# Altium integrated library ALTIUM-WE-PD-rev19a.IntLib: 320 symbols (part 4 of 5)
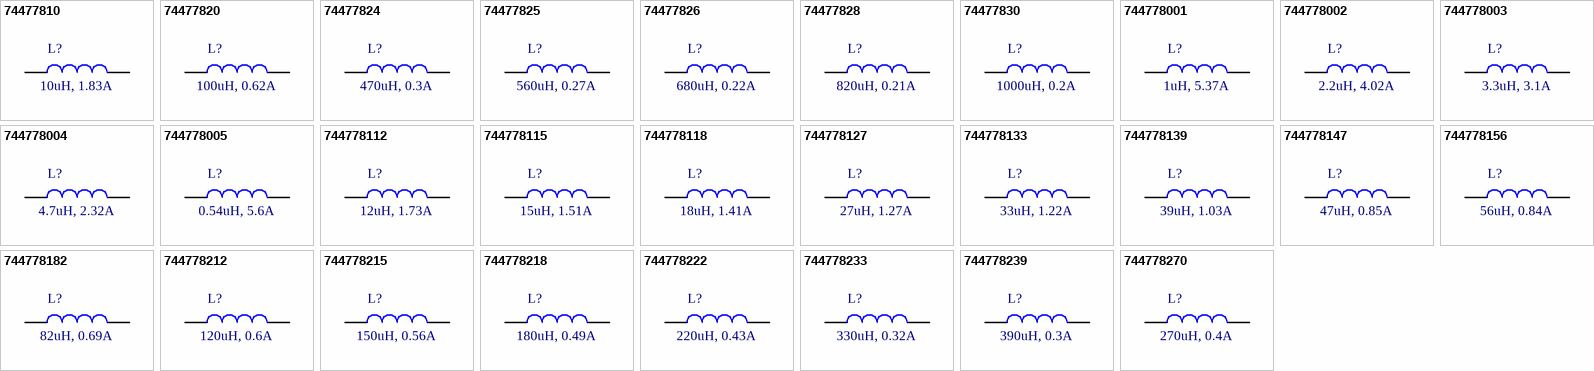
[diagram p17: symbols 74477810 to 744778270]

## 74477828
designator L?, comment 820uH, 0.21A
WE-PD SMT Power Inductor, size 7332, 820uH, 0.21A; Part Number: 74477828; DC Resistance max.: 6500mOhm; Self Resonant Frequency: 2.8MHz; Saturation Current: 0.2A; ComponentLink1Description: Manufacturer; ComponentLink1URL: http://www.we-online.de; ComponentLink2Description: Datasheet; ComponentLink2URL: https://katalog.we-online.com/pbs/datasheet/74477828.pdf; Published Date: April 2019; Publisher: Wurth Elektronik; Rated Current: 0.21A; Size: 7332; Inductance: 820uH; Operating Temperature: -40 to +125degC; Mounting Technology: SMT; Packaging: Tape and Reel
footprint WE-PD_7332
pins: 1, 2

## 74477830
designator L?, comment 1000uH, 0.2A
WE-PD SMT Power Inductor, size 7332, 1000uH, 0.2A; Part Number: 74477830; DC Resistance max.: 9440mOhm; Self Resonant Frequency: 2.6MHz; Saturation Current: 0.18A; ComponentLink1Description: Manufacturer; ComponentLink1URL: http://www.we-online.de; ComponentLink2Description: Datasheet; ComponentLink2URL: https://katalog.we-online.com/pbs/datasheet/74477830.pdf; Published Date: April 2019; Publisher: Wurth Elektronik; Rated Current: 0.2A; Size: 7332; Inductance: 1000uH; Operating Temperature: -40 to +125degC; Mounting Technology: SMT; Packaging: Tape and Reel
footprint WE-PD_7332
pins: 1, 2

## 744778001
designator L?, comment 1uH, 5.37A
WE-PD SMT Power Inductor, size 7332, 1uH, 5.37A; Part Number: 744778001; DC Resistance max.: 12mOhm; Self Resonant Frequency: 115MHz; Saturation Current: 6.4A; ComponentLink1Description: Manufacturer; ComponentLink1URL: http://www.we-online.de; ComponentLink2Description: Datasheet; ComponentLink2URL: https://katalog.we-online.com/pbs/datasheet/744778001.pdf; Published Date: April 2019; Publisher: Wurth Elektronik; Rated Current: 5.37A; Size: 7332; Inductance: 1uH; Operating Temperature: -40 to +125degC; Mounting Technology: SMT; Packaging: Tape and Reel
footprint WE-PD_7332
pins: 1, 2

## 744778002
designator L?, comment 2.2uH, 4.02A
WE-PD SMT Power Inductor, size 7332, 2.2uH, 4.02A; Part Number: 744778002; DC Resistance max.: 20mOhm; Self Resonant Frequency: 67MHz; Saturation Current: 4.8A; ComponentLink1Description: Manufacturer; ComponentLink1URL: http://www.we-online.de; ComponentLink2Description: Datasheet; ComponentLink2URL: https://katalog.we-online.com/pbs/datasheet/744778002.pdf; Published Date: April 2019; Publisher: Wurth Elektronik; Rated Current: 4.02A; Size: 7332; Inductance: 2.2uH; Operating Temperature: -40 to +125degC; Mounting Technology: SMT; Packaging: Tape and Reel
footprint WE-PD_7332
pins: 1, 2

## 744778003
designator L?, comment 3.3uH, 3.1A
WE-PD SMT Power Inductor, size 7332, 3.3uH, 3.1A; Part Number: 744778003; DC Resistance max.: 32mOhm; Self Resonant Frequency: 61MHz; Saturation Current: 4.1A; ComponentLink1Description: Manufacturer; ComponentLink1URL: http://www.we-online.de; ComponentLink2Description: Datasheet; ComponentLink2URL: https://katalog.we-online.com/pbs/datasheet/744778003.pdf; Published Date: April 2019; Publisher: Wurth Elektronik; Rated Current: 3.1A; Size: 7332; Inductance: 3.3uH; Operating Temperature: -40 to +125degC; Mounting Technology: SMT; Packaging: Tape and Reel
footprint WE-PD_7332
pins: 1, 2

## 744778004
designator L?, comment 4.7uH, 2.32A
WE-PD SMT Power Inductor, size 7332, 4.7uH, 2.32A; Part Number: 744778004; DC Resistance max.: 60mOhm; Self Resonant Frequency: 45MHz; Saturation Current: 4.2A; ComponentLink1Description: Manufacturer; ComponentLink1URL: http://www.we-online.de; ComponentLink2Description: Datasheet; ComponentLink2URL: https://katalog.we-online.com/pbs/datasheet/744778004.pdf; Published Date: April 2019; Publisher: Wurth Elektronik; Rated Current: 2.32A; Size: 7332; Inductance: 4.7uH; Operating Temperature: -40 to +125degC; Mounting Technology: SMT; Packaging: Tape and Reel
footprint WE-PD_7332
pins: 1, 2

## 744778005
designator L?, comment 0.54uH, 5.6A
WE-PD SMT Power Inductor, size 7332, 0.54uH, 5.6A; Part Number: 744778005; DC Resistance max.: 8.5mOhm; Self Resonant Frequency: 155MHz; Saturation Current: 9A; ComponentLink1Description: Manufacturer; ComponentLink1URL: http://www.we-online.de; ComponentLink2Description: Datasheet; ComponentLink2URL: https://katalog.we-online.com/pbs/datasheet/744778005.pdf; Published Date: April 2019; Publisher: Wurth Elektronik; Rated Current: 5.6A; Size: 7332; Inductance: 0.54uH; Operating Temperature: -40 to +125degC; Mounting Technology: SMT; Packaging: Tape and Reel
footprint WE-PD_7332
pins: 1, 2

## 744778112
designator L?, comment 12uH, 1.73A
WE-PD SMT Power Inductor, size 7332, 12uH, 1.73A; Part Number: 744778112; DC Resistance max.: 98mOhm; Self Resonant Frequency: 27MHz; Saturation Current: 2.15A; ComponentLink1Description: Manufacturer; ComponentLink1URL: http://www.we-online.de; ComponentLink2Description: Datasheet; ComponentLink2URL: https://katalog.we-online.com/pbs/datasheet/744778112.pdf; Published Date: April 2019; Publisher: Wurth Elektronik; Rated Current: 1.73A; Size: 7332; Inductance: 12uH; Operating Temperature: -40 to +125degC; Mounting Technology: SMT; Packaging: Tape and Reel
footprint WE-PD_7332
pins: 1, 2

## 744778115
designator L?, comment 15uH, 1.51A
WE-PD SMT Power Inductor, size 7332, 15uH, 1.51A; Part Number: 744778115; DC Resistance max.: 130mOhm; Self Resonant Frequency: 26MHz; Saturation Current: 1.75A; ComponentLink1Description: Manufacturer; ComponentLink1URL: http://www.we-online.de; ComponentLink2Description: Datasheet; ComponentLink2URL: https://katalog.we-online.com/pbs/datasheet/744778115.pdf; Published Date: April 2019; Publisher: Wurth Elektronik; Rated Current: 1.51A; Size: 7332; Inductance: 15uH; Operating Temperature: -40 to +125degC; Mounting Technology: SMT; Packaging: Tape and Reel
footprint WE-PD_7332
pins: 1, 2

## 744778118
designator L?, comment 18uH, 1.41A
WE-PD SMT Power Inductor, size 7332, 18uH, 1.41A; Part Number: 744778118; DC Resistance max.: 140mOhm; Self Resonant Frequency: 24MHz; Saturation Current: 1.7A; ComponentLink1Description: Manufacturer; ComponentLink1URL: http://www.we-online.de; ComponentLink2Description: Datasheet; ComponentLink2URL: https://katalog.we-online.com/pbs/datasheet/744778118.pdf; Published Date: April 2019; Publisher: Wurth Elektronik; Rated Current: 1.41A; Size: 7332; Inductance: 18uH; Operating Temperature: -40 to +125degC; Mounting Technology: SMT; Packaging: Tape and Reel
footprint WE-PD_7332
pins: 1, 2

## 744778127
designator L?, comment 27uH, 1.27A
WE-PD SMT Power Inductor, size 7332, 27uH, 1.27A; Part Number: 744778127; DC Resistance max.: 210mOhm; Self Resonant Frequency: 18MHz; Saturation Current: 1.3A; ComponentLink1Description: Manufacturer; ComponentLink1URL: http://www.we-online.de; ComponentLink2Description: Datasheet; ComponentLink2URL: https://katalog.we-online.com/pbs/datasheet/744778127.pdf; Published Date: April 2019; Publisher: Wurth Elektronik; Rated Current: 1.27A; Size: 7332; Inductance: 27uH; Operating Temperature: -40 to +125degC; Mounting Technology: SMT; Packaging: Tape and Reel
footprint WE-PD_7332
pins: 1, 2

## 744778133
designator L?, comment 33uH, 1.22A
WE-PD SMT Power Inductor, size 7332, 33uH, 1.22A; Part Number: 744778133; DC Resistance max.: 240mOhm; Self Resonant Frequency: 16MHz; Saturation Current: 1.15A; ComponentLink1Description: Manufacturer; ComponentLink1URL: http://www.we-online.de; ComponentLink2Description: Datasheet; ComponentLink2URL: https://katalog.we-online.com/pbs/datasheet/744778133.pdf; Published Date: April 2019; Publisher: Wurth Elektronik; Rated Current: 1.22A; Size: 7332; Inductance: 33uH; Operating Temperature: -40 to +125degC; Mounting Technology: SMT; Packaging: Tape and Reel
footprint WE-PD_7332
pins: 1, 2

## 744778139
designator L?, comment 39uH, 1.03A
WE-PD SMT Power Inductor, size 7332, 39uH, 1.03A; Part Number: 744778139; DC Resistance max.: 320mOhm; Self Resonant Frequency: 14MHz; Saturation Current: 1.1A; ComponentLink1Description: Manufacturer; ComponentLink1URL: http://www.we-online.de; ComponentLink2Description: Datasheet; ComponentLink2URL: https://katalog.we-online.com/pbs/datasheet/744778139.pdf; Published Date: April 2019; Publisher: Wurth Elektronik; Rated Current: 1.03A; Size: 7332; Inductance: 39uH; Operating Temperature: -40 to +125degC; Mounting Technology: SMT; Packaging: Tape and Reel
footprint WE-PD_7332
pins: 1, 2

## 744778147
designator L?, comment 47uH, 0.85A
WE-PD SMT Power Inductor, size 7332, 47uH, 0.85A; Part Number: 744778147; DC Resistance max.: 360mOhm; Self Resonant Frequency: 13.5MHz; Saturation Current: 1A; ComponentLink1Description: Manufacturer; ComponentLink1URL: http://www.we-online.de; ComponentLink2Description: Datasheet; ComponentLink2URL: https://katalog.we-online.com/pbs/datasheet/744778147.pdf; Published Date: April 2019; Publisher: Wurth Elektronik; Rated Current: 0.85A; Size: 7332; Inductance: 47uH; Operating Temperature: -40 to +125degC; Mounting Technology: SMT; Packaging: Tape and Reel
footprint WE-PD_7332
pins: 1, 2

## 744778156
designator L?, comment 56uH, 0.84A
WE-PD SMT Power Inductor, size 7332, 56uH, 0.84A; Part Number: 744778156; DC Resistance max.: 470mOhm; Self Resonant Frequency: 12.5MHz; Saturation Current: 0.88A; ComponentLink1Description: Manufacturer; ComponentLink1URL: http://www.we-online.de; ComponentLink2Description: Datasheet; ComponentLink2URL: https://katalog.we-online.com/pbs/datasheet/744778156.pdf; Published Date: April 2019; Publisher: Wurth Elektronik; Rated Current: 0.84A; Size: 7332; Inductance: 56uH; Operating Temperature: -40 to +125degC; Mounting Technology: SMT; Packaging: Tape and Reel
footprint WE-PD_7332
pins: 1, 2

## 744778182
designator L?, comment 82uH, 0.69A
WE-PD SMT Power Inductor, size 7332, 82uH, 0.69A; Part Number: 744778182; DC Resistance max.: 690mOhm; Self Resonant Frequency: 9.8MHz; Saturation Current: 0.78A; ComponentLink1Description: Manufacturer; ComponentLink1URL: http://www.we-online.de; ComponentLink2Description: Datasheet; ComponentLink2URL: https://katalog.we-online.com/pbs/datasheet/744778182.pdf; Published Date: April 2019; Publisher: Wurth Elektronik; Rated Current: 0.69A; Size: 7332; Inductance: 82uH; Operating Temperature: -40 to +125degC; Mounting Technology: SMT; Packaging: Tape and Reel
footprint WE-PD_7332
pins: 1, 2

## 744778212
designator L?, comment 120uH, 0.6A
WE-PD SMT Power Inductor, size 7332, 120uH, 0.6A; Part Number: 744778212; DC Resistance max.: 890mOhm; Self Resonant Frequency: 8.5MHz; Saturation Current: 0.68A; ComponentLink1Description: Manufacturer; ComponentLink1URL: http://www.we-online.de; ComponentLink2Description: Datasheet; ComponentLink2URL: https://katalog.we-online.com/pbs/datasheet/744778212.pdf; Published Date: April 2019; Publisher: Wurth Elektronik; Rated Current: 0.6A; Size: 7332; Inductance: 120uH; Operating Temperature: -40 to +125degC; Mounting Technology: SMT; Packaging: Tape and Reel
footprint WE-PD_7332
pins: 1, 2

## 744778215
designator L?, comment 150uH, 0.56A
WE-PD SMT Power Inductor, size 7332, 150uH, 0.56A; Part Number: 744778215; DC Resistance max.: 1270mOhm; Self Resonant Frequency: 7.2MHz; Saturation Current: 0.53A; ComponentLink1Description: Manufacturer; ComponentLink1URL: http://www.we-online.de; ComponentLink2Description: Datasheet; ComponentLink2URL: https://katalog.we-online.com/pbs/datasheet/744778215.pdf; Published Date: April 2019; Publisher: Wurth Elektronik; Rated Current: 0.56A; Size: 7332; Inductance: 150uH; Operating Temperature: -40 to +125degC; Mounting Technology: SMT; Packaging: Tape and Reel
footprint WE-PD_7332
pins: 1, 2

## 744778218
designator L?, comment 180uH, 0.49A
WE-PD SMT Power Inductor, size 7332, 180uH, 0.49A; Part Number: 744778218; DC Resistance max.: 1450mOhm; Self Resonant Frequency: 7MHz; Saturation Current: 0.5A; ComponentLink1Description: Manufacturer; ComponentLink1URL: http://www.we-online.de; ComponentLink2Description: Datasheet; ComponentLink2URL: https://katalog.we-online.com/pbs/datasheet/744778218.pdf; Published Date: April 2019; Publisher: Wurth Elektronik; Rated Current: 0.49A; Size: 7332; Inductance: 180uH; Operating Temperature: -40 to +125degC; Mounting Technology: SMT; Packaging: Tape and Reel
footprint WE-PD_7332
pins: 1, 2

## 744778222
designator L?, comment 220uH, 0.43A
WE-PD SMT Power Inductor, size 7332, 220uH, 0.43A; Part Number: 744778222; DC Resistance max.: 1650mOhm; Self Resonant Frequency: 6MHz; Saturation Current: 0.42A; ComponentLink1Description: Manufacturer; ComponentLink1URL: http://www.we-online.de; ComponentLink2Description: Datasheet; ComponentLink2URL: https://katalog.we-online.com/pbs/datasheet/744778222.pdf; Published Date: April 2019; Publisher: Wurth Elektronik; Rated Current: 0.43A; Size: 7332; Inductance: 220uH; Operating Temperature: -40 to +125degC; Mounting Technology: SMT; Packaging: Tape and Reel
footprint WE-PD_7332
pins: 1, 2

## 744778233
designator L?, comment 330uH, 0.32A
WE-PD SMT Power Inductor, size 7332, 330uH, 0.32A; Part Number: 744778233; DC Resistance max.: 2620mOhm; Self Resonant Frequency: 4.8MHz; Saturation Current: 0.35A; ComponentLink1Description: Manufacturer; ComponentLink1URL: http://www.we-online.de; ComponentLink2Description: Datasheet; ComponentLink2URL: https://katalog.we-online.com/pbs/datasheet/744778233.pdf; Published Date: April 2019; Publisher: Wurth Elektronik; Rated Current: 0.32A; Size: 7332; Inductance: 330uH; Operating Temperature: -40 to +125degC; Mounting Technology: SMT; Packaging: Tape and Reel
footprint WE-PD_7332
pins: 1, 2

## 744778239
designator L?, comment 390uH, 0.3A
WE-PD SMT Power Inductor, size 7332, 390uH, 0.3A; Part Number: 744778239; DC Resistance max.: 2940mOhm; Self Resonant Frequency: 4.4MHz; Saturation Current: 0.34A; ComponentLink1Description: Manufacturer; ComponentLink1URL: http://www.we-online.de; ComponentLink2Description: Datasheet; ComponentLink2URL: https://katalog.we-online.com/pbs/datasheet/744778239.pdf; Published Date: April 2019; Publisher: Wurth Elektronik; Rated Current: 0.3A; Size: 7332; Inductance: 390uH; Operating Temperature: -40 to +125degC; Mounting Technology: SMT; Packaging: Tape and Reel
footprint WE-PD_7332
pins: 1, 2

## 744778270
designator L?, comment 270uH, 0.4A
WE-PD SMT Power Inductor, size 7332, 270uH, 0.4A; Part Number: 744778270; DC Resistance max.: 2310mOhm; Self Resonant Frequency: 5.2MHz; Saturation Current: 0.39A; ComponentLink1Description: Manufacturer; ComponentLink1URL: http://www.we-online.de; ComponentLink2Description: Datasheet; ComponentLink2URL: https://katalog.we-online.com/pbs/datasheet/744778270.pdf; Published Date: April 2019; Publisher: Wurth Elektronik; Rated Current: 0.4A; Size: 7332; Inductance: 270uH; Operating Temperature: -40 to +125degC; Mounting Technology: SMT; Packaging: Tape and Reel
footprint WE-PD_7332
pins: 1, 2


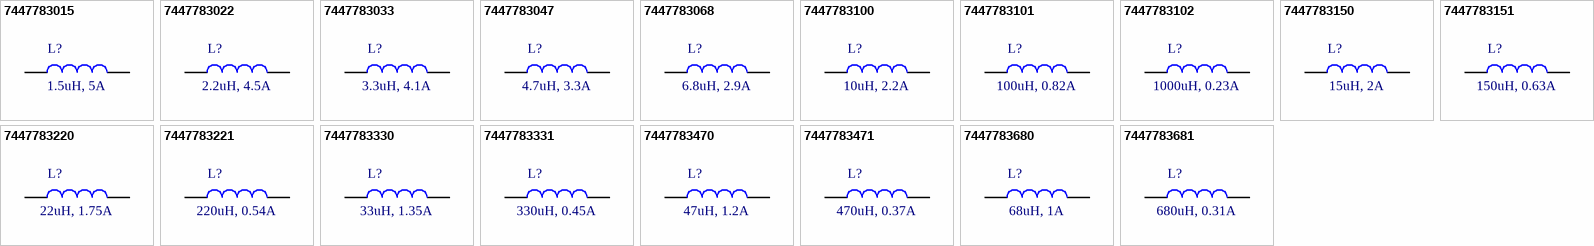
[diagram p11: symbols 7447783015 to 7447783681]

## 7447783015
designator L?, comment 1.5uH, 5A
WE-PD SMT Power Inductor, size 7332, 1.5uH, 5A; Part Number: 7447783015; DC Resistance max.: 15mOhm; Self Resonant Frequency: 73MHz; Saturation Current: 7.8A; ComponentLink1Description: Manufacturer; ComponentLink1URL: http://www.we-online.de; ComponentLink2Description: Datasheet; ComponentLink2URL: https://katalog.we-online.com/pbs/datasheet/7447783015.pdf; Published Date: April 2019; Publisher: Wurth Elektronik; Rated Current: 5A; Size: 7332; Inductance: 1.5uH; Operating Temperature: -40 to +125degC; Mounting Technology: SMT; Packaging: Tape and Reel
footprint WE-PD_7332_Performance
pins: 1, 2

## 7447783022
designator L?, comment 2.2uH, 4.5A
WE-PD SMT Power Inductor, size 7332, 2.2uH, 4.5A; Part Number: 7447783022; DC Resistance max.: 19mOhm; Self Resonant Frequency: 62MHz; Saturation Current: 6.5A; ComponentLink1Description: Manufacturer; ComponentLink1URL: http://www.we-online.de; ComponentLink2Description: Datasheet; ComponentLink2URL: https://katalog.we-online.com/pbs/datasheet/7447783022.pdf; Published Date: April 2019; Publisher: Wurth Elektronik; Rated Current: 4.5A; Size: 7332; Inductance: 2.2uH; Operating Temperature: -40 to +125degC; Mounting Technology: SMT; Packaging: Tape and Reel
footprint WE-PD_7332_Performance
pins: 1, 2

## 7447783033
designator L?, comment 3.3uH, 4.1A
WE-PD SMT Power Inductor, size 7332, 3.3uH, 4.1A; Part Number: 7447783033; DC Resistance max.: 24mOhm; Self Resonant Frequency: 51MHz; Saturation Current: 5.3A; ComponentLink1Description: Manufacturer; ComponentLink1URL: http://www.we-online.de; ComponentLink2Description: Datasheet; ComponentLink2URL: https://katalog.we-online.com/pbs/datasheet/7447783033.pdf; Published Date: April 2019; Publisher: Wurth Elektronik; Rated Current: 4.1A; Size: 7332; Inductance: 3.3uH; Operating Temperature: -40 to +125degC; Mounting Technology: SMT; Packaging: Tape and Reel
footprint WE-PD_7332_Performance
pins: 1, 2

## 7447783047
designator L?, comment 4.7uH, 3.3A
WE-PD SMT Power Inductor, size 7332, 4.7uH, 3.3A; Part Number: 7447783047; DC Resistance max.: 35mOhm; Self Resonant Frequency: 38MHz; Saturation Current: 4.6A; ComponentLink1Description: Manufacturer; ComponentLink1URL: http://www.we-online.de; ComponentLink2Description: Datasheet; ComponentLink2URL: https://katalog.we-online.com/pbs/datasheet/7447783047.pdf; Published Date: April 2019; Publisher: Wurth Elektronik; Rated Current: 3.3A; Size: 7332; Inductance: 4.7uH; Operating Temperature: -40 to +125degC; Mounting Technology: SMT; Packaging: Tape and Reel
footprint WE-PD_7332_Performance
pins: 1, 2

## 7447783068
designator L?, comment 6.8uH, 2.9A
WE-PD SMT Power Inductor, size 7332, 6.8uH, 2.9A; Part Number: 7447783068; DC Resistance max.: 41mOhm; Self Resonant Frequency: 35MHz; Saturation Current: 3.8A; ComponentLink1Description: Manufacturer; ComponentLink1URL: http://www.we-online.de; ComponentLink2Description: Datasheet; ComponentLink2URL: https://katalog.we-online.com/pbs/datasheet/7447783068.pdf; Published Date: April 2019; Publisher: Wurth Elektronik; Rated Current: 2.9A; Size: 7332; Inductance: 6.8uH; Operating Temperature: -40 to +125degC; Mounting Technology: SMT; Packaging: Tape and Reel
footprint WE-PD_7332_Performance
pins: 1, 2

## 7447783100
designator L?, comment 10uH, 2.2A
WE-PD SMT Power Inductor, size 7332, 10uH, 2.2A; Part Number: 7447783100; DC Resistance max.: 68mOhm; Self Resonant Frequency: 30MHz; Saturation Current: 3.1A; ComponentLink1Description: Manufacturer; ComponentLink1URL: http://www.we-online.de; ComponentLink2Description: Datasheet; ComponentLink2URL: https://katalog.we-online.com/pbs/datasheet/7447783100.pdf; Published Date: April 2019; Publisher: Wurth Elektronik; Rated Current: 2.2A; Size: 7332; Inductance: 10uH; Operating Temperature: -40 to +125degC; Mounting Technology: SMT; Packaging: Tape and Reel
footprint WE-PD_7332_Performance
pins: 1, 2

## 7447783101
designator L?, comment 100uH, 0.82A
WE-PD SMT Power Inductor, size 7332, 100uH, 0.82A; Part Number: 7447783101; DC Resistance max.: 450mOhm; Self Resonant Frequency: 7.8MHz; Saturation Current: 1A; ComponentLink1Description: Manufacturer; ComponentLink1URL: http://www.we-online.de; ComponentLink2Description: Datasheet; ComponentLink2URL: https://katalog.we-online.com/pbs/datasheet/7447783101.pdf; Published Date: April 2019; Publisher: Wurth Elektronik; Rated Current: 0.82A; Size: 7332; Inductance: 100uH; Operating Temperature: -40 to +125degC; Mounting Technology: SMT; Packaging: Tape and Reel
footprint WE-PD_7332_Performance
pins: 1, 2

## 7447783102
designator L?, comment 1000uH, 0.23A
WE-PD SMT Power Inductor, size 7332, 1000uH, 0.23A; Part Number: 7447783102; DC Resistance max.: 4600mOhm; Self Resonant Frequency: 2.2MHz; Saturation Current: 0.32A; ComponentLink1Description: Manufacturer; ComponentLink1URL: http://www.we-online.de; ComponentLink2Description: Datasheet; ComponentLink2URL: https://katalog.we-online.com/pbs/datasheet/7447783102.pdf; Published Date: April 2019; Publisher: Wurth Elektronik; Rated Current: 0.23A; Size: 7332; Inductance: 1000uH; Operating Temperature: -40 to +125degC; Mounting Technology: SMT; Packaging: Tape and Reel
footprint WE-PD_7332_Performance
pins: 1, 2

## 7447783150
designator L?, comment 15uH, 2A
WE-PD SMT Power Inductor, size 7332, 15uH, 2A; Part Number: 7447783150; DC Resistance max.: 85mOhm; Self Resonant Frequency: 23MHz; Saturation Current: 2.5A; ComponentLink1Description: Manufacturer; ComponentLink1URL: http://www.we-online.de; ComponentLink2Description: Datasheet; ComponentLink2URL: https://katalog.we-online.com/pbs/datasheet/7447783150.pdf; Published Date: April 2019; Publisher: Wurth Elektronik; Rated Current: 2A; Size: 7332; Inductance: 15uH; Operating Temperature: -40 to +125degC; Mounting Technology: SMT; Packaging: Tape and Reel
footprint WE-PD_7332_Performance
pins: 1, 2

## 7447783151
designator L?, comment 150uH, 0.63A
WE-PD SMT Power Inductor, size 7332, 150uH, 0.63A; Part Number: 7447783151; DC Resistance max.: 750mOhm; Self Resonant Frequency: 6.25MHz; Saturation Current: 0.84A; ComponentLink1Description: Manufacturer; ComponentLink1URL: http://www.we-online.de; ComponentLink2Description: Datasheet; ComponentLink2URL: https://katalog.we-online.com/pbs/datasheet/7447783151.pdf; Published Date: April 2019; Publisher: Wurth Elektronik; Rated Current: 0.63A; Size: 7332; Inductance: 150uH; Operating Temperature: -40 to +125degC; Mounting Technology: SMT; Packaging: Tape and Reel
footprint WE-PD_7332_Performance
pins: 1, 2

## 7447783220
designator L?, comment 22uH, 1.75A
WE-PD SMT Power Inductor, size 7332, 22uH, 1.75A; Part Number: 7447783220; DC Resistance max.: 115mOhm; Self Resonant Frequency: 18MHz; Saturation Current: 2.15A; ComponentLink1Description: Manufacturer; ComponentLink1URL: http://www.we-online.de; ComponentLink2Description: Datasheet; ComponentLink2URL: https://katalog.we-online.com/pbs/datasheet/7447783220.pdf; Published Date: April 2019; Publisher: Wurth Elektronik; Rated Current: 1.75A; Size: 7332; Inductance: 22uH; Operating Temperature: -40 to +125degC; Mounting Technology: SMT; Packaging: Tape and Reel
footprint WE-PD_7332_Performance
pins: 1, 2

## 7447783221
designator L?, comment 220uH, 0.54A
WE-PD SMT Power Inductor, size 7332, 220uH, 0.54A; Part Number: 7447783221; DC Resistance max.: 1040mOhm; Self Resonant Frequency: 5MHz; Saturation Current: 0.69A; ComponentLink1Description: Manufacturer; ComponentLink1URL: http://www.we-online.de; ComponentLink2Description: Datasheet; ComponentLink2URL: https://katalog.we-online.com/pbs/datasheet/7447783221.pdf; Published Date: April 2019; Publisher: Wurth Elektronik; Rated Current: 0.54A; Size: 7332; Inductance: 220uH; Operating Temperature: -40 to +125degC; Mounting Technology: SMT; Packaging: Tape and Reel
footprint WE-PD_7332_Performance
pins: 1, 2

## 7447783330
designator L?, comment 33uH, 1.35A
WE-PD SMT Power Inductor, size 7332, 33uH, 1.35A; Part Number: 7447783330; DC Resistance max.: 165mOhm; Self Resonant Frequency: 14MHz; Saturation Current: 1.75A; ComponentLink1Description: Manufacturer; ComponentLink1URL: http://www.we-online.de; ComponentLink2Description: Datasheet; ComponentLink2URL: https://katalog.we-online.com/pbs/datasheet/7447783330.pdf; Published Date: April 2019; Publisher: Wurth Elektronik; Rated Current: 1.35A; Size: 7332; Inductance: 33uH; Operating Temperature: -40 to +125degC; Mounting Technology: SMT; Packaging: Tape and Reel
footprint WE-PD_7332_Performance
pins: 1, 2

## 7447783331
designator L?, comment 330uH, 0.45A
WE-PD SMT Power Inductor, size 7332, 330uH, 0.45A; Part Number: 7447783331; DC Resistance max.: 1430mOhm; Self Resonant Frequency: 4MHz; Saturation Current: 0.56A; ComponentLink1Description: Manufacturer; ComponentLink1URL: http://www.we-online.de; ComponentLink2Description: Datasheet; ComponentLink2URL: https://katalog.we-online.com/pbs/datasheet/7447783331.pdf; Published Date: April 2019; Publisher: Wurth Elektronik; Rated Current: 0.45A; Size: 7332; Inductance: 330uH; Operating Temperature: -40 to +125degC; Mounting Technology: SMT; Packaging: Tape and Reel
footprint WE-PD_7332_Performance
pins: 1, 2

## 7447783470
designator L?, comment 47uH, 1.2A
WE-PD SMT Power Inductor, size 7332, 47uH, 1.2A; Part Number: 7447783470; DC Resistance max.: 210mOhm; Self Resonant Frequency: 11.6MHz; Saturation Current: 1.45A; ComponentLink1Description: Manufacturer; ComponentLink1URL: http://www.we-online.de; ComponentLink2Description: Datasheet; ComponentLink2URL: https://katalog.we-online.com/pbs/datasheet/7447783470.pdf; Published Date: April 2019; Publisher: Wurth Elektronik; Rated Current: 1.2A; Size: 7332; Inductance: 47uH; Operating Temperature: -40 to +125degC; Mounting Technology: SMT; Packaging: Tape and Reel
footprint WE-PD_7332_Performance
pins: 1, 2

## 7447783471
designator L?, comment 470uH, 0.37A
WE-PD SMT Power Inductor, size 7332, 470uH, 0.37A; Part Number: 7447783471; DC Resistance max.: 2040mOhm; Self Resonant Frequency: 3.3MHz; Saturation Current: 0.47A; ComponentLink1Description: Manufacturer; ComponentLink1URL: http://www.we-online.de; ComponentLink2Description: Datasheet; ComponentLink2URL: https://katalog.we-online.com/pbs/datasheet/7447783471.pdf; Published Date: April 2019; Publisher: Wurth Elektronik; Rated Current: 0.37A; Size: 7332; Inductance: 470uH; Operating Temperature: -40 to +125degC; Mounting Technology: SMT; Packaging: Tape and Reel
footprint WE-PD_7332_Performance
pins: 1, 2

## 7447783680
designator L?, comment 68uH, 1A
WE-PD SMT Power Inductor, size 7332, 68uH, 1A; Part Number: 7447783680; DC Resistance max.: 300mOhm; Self Resonant Frequency: 9.3MHz; Saturation Current: 1.25A; ComponentLink1Description: Manufacturer; ComponentLink1URL: http://www.we-online.de; ComponentLink2Description: Datasheet; ComponentLink2URL: https://katalog.we-online.com/pbs/datasheet/7447783680.pdf; Published Date: April 2019; Publisher: Wurth Elektronik; Rated Current: 1A; Size: 7332; Inductance: 68uH; Operating Temperature: -40 to +125degC; Mounting Technology: SMT; Packaging: Tape and Reel
footprint WE-PD_7332_Performance
pins: 1, 2

## 7447783681
designator L?, comment 680uH, 0.31A
WE-PD SMT Power Inductor, size 7332, 680uH, 0.31A; Part Number: 7447783681; DC Resistance max.: 2900mOhm; Self Resonant Frequency: 2.75MHz; Saturation Current: 0.39A; ComponentLink1Description: Manufacturer; ComponentLink1URL: http://www.we-online.de; ComponentLink2Description: Datasheet; ComponentLink2URL: https://katalog.we-online.com/pbs/datasheet/7447783681.pdf; Published Date: April 2019; Publisher: Wurth Elektronik; Rated Current: 0.31A; Size: 7332; Inductance: 680uH; Operating Temperature: -40 to +125degC; Mounting Technology: SMT; Packaging: Tape and Reel
footprint WE-PD_7332_Performance
pins: 1, 2


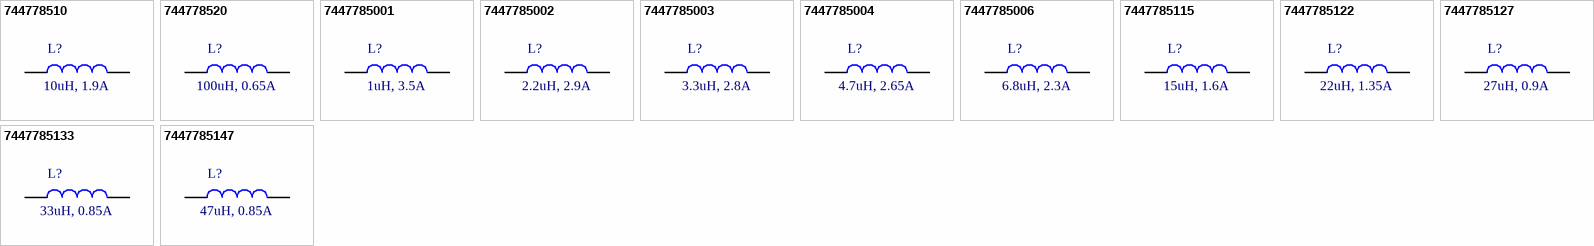
[diagram p12: symbols 744778510 to 7447785147]

## 744778510
designator L?, comment 10uH, 1.9A
WE-PD SMT Power Inductor, size 6033, 10uH, 1.9A; Part Number: 744778510; DC Resistance max.: 125mOhm; Self Resonant Frequency: 37MHz; Saturation Current: 1.6A; ComponentLink1Description: Manufacturer; ComponentLink1URL: http://www.we-online.de; ComponentLink2Description: Datasheet; ComponentLink2URL: https://katalog.we-online.com/pbs/datasheet/744778510.pdf; Published Date: April 2019; Publisher: Wurth Elektronik; Rated Current: 1.9A; Size: 6033; Inductance: 10uH; Operating Temperature: -40 to +125degC; Mounting Technology: SMT; Packaging: Tape and Reel
footprint WE-PD_6033_Robust
pins: 1, 2

## 744778520
designator L?, comment 100uH, 0.65A
WE-PD SMT Power Inductor, size 6033, 100uH, 0.65A; Part Number: 744778520; DC Resistance max.: 1060mOhm; Self Resonant Frequency: 11MHz; Saturation Current: 0.5A; ComponentLink1Description: Manufacturer; ComponentLink1URL: http://www.we-online.de; ComponentLink2Description: Datasheet; ComponentLink2URL: https://katalog.we-online.com/pbs/datasheet/744778520.pdf; Published Date: April 2019; Publisher: Wurth Elektronik; Rated Current: 0.65A; Size: 6033; Inductance: 100uH; Operating Temperature: -40 to +125degC; Mounting Technology: SMT; Packaging: Tape and Reel
footprint WE-PD_6033_Robust
pins: 1, 2

## 7447785001
designator L?, comment 1uH, 3.5A
WE-PD SMT Power Inductor, size 6033, 1uH, 3.5A; Part Number: 7447785001; DC Resistance max.: 39mOhm; Self Resonant Frequency: 192MHz; Saturation Current: 4.5A; ComponentLink1Description: Manufacturer; ComponentLink1URL: http://www.we-online.de; ComponentLink2Description: Datasheet; ComponentLink2URL: https://katalog.we-online.com/pbs/datasheet/7447785001.pdf; Published Date: April 2019; Publisher: Wurth Elektronik; Rated Current: 3.5A; Size: 6033; Inductance: 1uH; Operating Temperature: -40 to +125degC; Mounting Technology: SMT; Packaging: Tape and Reel
footprint WE-PD_6033_Robust
pins: 1, 2

## 7447785002
designator L?, comment 2.2uH, 2.9A
WE-PD SMT Power Inductor, size 6033, 2.2uH, 2.9A; Part Number: 7447785002; DC Resistance max.: 54mOhm; Self Resonant Frequency: 88MHz; Saturation Current: 3.3A; ComponentLink1Description: Manufacturer; ComponentLink1URL: http://www.we-online.de; ComponentLink2Description: Datasheet; ComponentLink2URL: https://katalog.we-online.com/pbs/datasheet/7447785002.pdf; Published Date: April 2019; Publisher: Wurth Elektronik; Rated Current: 2.9A; Size: 6033; Inductance: 2.2uH; Operating Temperature: -40 to +125degC; Mounting Technology: SMT; Packaging: Tape and Reel
footprint WE-PD_6033_Robust
pins: 1, 2

## 7447785003
designator L?, comment 3.3uH, 2.8A
WE-PD SMT Power Inductor, size 6033, 3.3uH, 2.8A; Part Number: 7447785003; DC Resistance max.: 67mOhm; Self Resonant Frequency: 60MHz; Saturation Current: 3A; ComponentLink1Description: Manufacturer; ComponentLink1URL: http://www.we-online.de; ComponentLink2Description: Datasheet; ComponentLink2URL: https://katalog.we-online.com/pbs/datasheet/7447785003.pdf; Published Date: April 2019; Publisher: Wurth Elektronik; Rated Current: 2.8A; Size: 6033; Inductance: 3.3uH; Operating Temperature: -40 to +125degC; Mounting Technology: SMT; Packaging: Tape and Reel
footprint WE-PD_6033_Robust
pins: 1, 2

## 7447785004
designator L?, comment 4.7uH, 2.65A
WE-PD SMT Power Inductor, size 6033, 4.7uH, 2.65A; Part Number: 7447785004; DC Resistance max.: 78mOhm; Self Resonant Frequency: 53MHz; Saturation Current: 2.5A; ComponentLink1Description: Manufacturer; ComponentLink1URL: http://www.we-online.de; ComponentLink2Description: Datasheet; ComponentLink2URL: https://katalog.we-online.com/pbs/datasheet/7447785004.pdf; Published Date: April 2019; Publisher: Wurth Elektronik; Rated Current: 2.65A; Size: 6033; Inductance: 4.7uH; Operating Temperature: -40 to +125degC; Mounting Technology: SMT; Packaging: Tape and Reel
footprint WE-PD_6033_Robust
pins: 1, 2

## 7447785006
designator L?, comment 6.8uH, 2.3A
WE-PD SMT Power Inductor, size 6033, 6.8uH, 2.3A; Part Number: 7447785006; DC Resistance max.: 100mOhm; Self Resonant Frequency: 45MHz; Saturation Current: 2A; ComponentLink1Description: Manufacturer; ComponentLink1URL: http://www.we-online.de; ComponentLink2Description: Datasheet; ComponentLink2URL: https://katalog.we-online.com/pbs/datasheet/7447785006.pdf; Published Date: April 2019; Publisher: Wurth Elektronik; Rated Current: 2.3A; Size: 6033; Inductance: 6.8uH; Operating Temperature: -40 to +125degC; Mounting Technology: SMT; Packaging: Tape and Reel
footprint WE-PD_6033_Robust
pins: 1, 2

## 7447785115
designator L?, comment 15uH, 1.6A
WE-PD SMT Power Inductor, size 6033, 15uH, 1.6A; Part Number: 7447785115; DC Resistance max.: 200mOhm; Self Resonant Frequency: 28MHz; Saturation Current: 1.4A; ComponentLink1Description: Manufacturer; ComponentLink1URL: http://www.we-online.de; ComponentLink2Description: Datasheet; ComponentLink2URL: https://katalog.we-online.com/pbs/datasheet/7447785115.pdf; Published Date: April 2019; Publisher: Wurth Elektronik; Rated Current: 1.6A; Size: 6033; Inductance: 15uH; Operating Temperature: -40 to +125degC; Mounting Technology: SMT; Packaging: Tape and Reel
footprint WE-PD_6033_Robust
pins: 1, 2

## 7447785122
designator L?, comment 22uH, 1.35A
WE-PD SMT Power Inductor, size 6033, 22uH, 1.35A; Part Number: 7447785122; DC Resistance max.: 250mOhm; Self Resonant Frequency: 23MHz; Saturation Current: 1.1A; ComponentLink1Description: Manufacturer; ComponentLink1URL: http://www.we-online.de; ComponentLink2Description: Datasheet; ComponentLink2URL: https://katalog.we-online.com/pbs/datasheet/7447785122.pdf; Published Date: April 2019; Publisher: Wurth Elektronik; Rated Current: 1.35A; Size: 6033; Inductance: 22uH; Operating Temperature: -40 to +125degC; Mounting Technology: SMT; Packaging: Tape and Reel
footprint WE-PD_6033_Robust
pins: 1, 2

## 7447785127
designator L?, comment 27uH, 0.9A
WE-PD SMT Power Inductor, size 6033, 27uH, 0.9A; Part Number: 7447785127; DC Resistance max.: 360mOhm; Self Resonant Frequency: 18MHz; Saturation Current: 1A; ComponentLink1Description: Manufacturer; ComponentLink1URL: http://www.we-online.de; ComponentLink2Description: Datasheet; ComponentLink2URL: https://katalog.we-online.com/pbs/datasheet/7447785127.pdf; Published Date: April 2019; Publisher: Wurth Elektronik; Rated Current: 0.9A; Size: 6033; Inductance: 27uH; Operating Temperature: -40 to +125degC; Mounting Technology: SMT; Packaging: Tape and Reel
footprint WE-PD_6033_Robust
pins: 1, 2

## 7447785133
designator L?, comment 33uH, 0.85A
WE-PD SMT Power Inductor, size 6033, 33uH, 0.85A; Part Number: 7447785133; DC Resistance max.: 400mOhm; Self Resonant Frequency: 17MHz; Saturation Current: 0.9A; ComponentLink1Description: Manufacturer; ComponentLink1URL: http://www.we-online.de; ComponentLink2Description: Datasheet; ComponentLink2URL: https://katalog.we-online.com/pbs/datasheet/7447785133.pdf; Published Date: April 2019; Publisher: Wurth Elektronik; Rated Current: 0.85A; Size: 6033; Inductance: 33uH; Operating Temperature: -40 to +125degC; Mounting Technology: SMT; Packaging: Tape and Reel
footprint WE-PD_6033_Robust
pins: 1, 2

## 7447785147
designator L?, comment 47uH, 0.85A
WE-PD SMT Power Inductor, size 6033, 47uH, 0.85A; Part Number: 7447785147; DC Resistance max.: 600mOhm; Self Resonant Frequency: 16.5MHz; Saturation Current: 0.74A; ComponentLink1Description: Manufacturer; ComponentLink1URL: http://www.we-online.de; ComponentLink2Description: Datasheet; ComponentLink2URL: https://katalog.we-online.com/pbs/datasheet/7447785147.pdf; Published Date: April 2019; Publisher: Wurth Elektronik; Rated Current: 0.85A; Size: 6033; Inductance: 47uH; Operating Temperature: -40 to +125degC; Mounting Technology: SMT; Packaging: Tape and Reel
footprint WE-PD_6033_Robust
pins: 1, 2


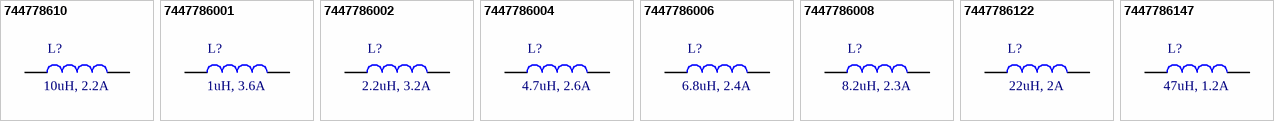
[diagram p13: symbols 744778610 to 7447786147]

## 744778610
designator L?, comment 10uH, 2.2A
WE-PD SMT Power Inductor, size 6050, 10uH, 2.2A; Part Number: 744778610; DC Resistance max.: 88mOhm; Self Resonant Frequency: 35MHz; Saturation Current: 1.7A; ComponentLink1Description: Manufacturer; ComponentLink1URL: http://www.we-online.de; ComponentLink2Description: Datasheet; ComponentLink2URL: https://katalog.we-online.com/pbs/datasheet/744778610.pdf; Published Date: April 2019; Publisher: Wurth Elektronik; Rated Current: 2.2A; Size: 6050; Inductance: 10uH; Operating Temperature: -40 to +125degC; Mounting Technology: SMT; Packaging: Tape and Reel
footprint WE-PD_6050_Robust
pins: 1, 2

## 7447786001
designator L?, comment 1uH, 3.6A
WE-PD SMT Power Inductor, size 6050, 1uH, 3.6A; Part Number: 7447786001; DC Resistance max.: 34mOhm; Self Resonant Frequency: 180MHz; Saturation Current: 5.5A; ComponentLink1Description: Manufacturer; ComponentLink1URL: http://www.we-online.de; ComponentLink2Description: Datasheet; ComponentLink2URL: https://katalog.we-online.com/pbs/datasheet/7447786001.pdf; Published Date: April 2019; Publisher: Wurth Elektronik; Rated Current: 3.6A; Size: 6050; Inductance: 1uH; Operating Temperature: -40 to +125degC; Mounting Technology: SMT; Packaging: Tape and Reel
footprint WE-PD_6050_Robust
pins: 1, 2

## 7447786002
designator L?, comment 2.2uH, 3.2A
WE-PD SMT Power Inductor, size 6050, 2.2uH, 3.2A; Part Number: 7447786002; DC Resistance max.: 49mOhm; Self Resonant Frequency: 115MHz; Saturation Current: 4A; ComponentLink1Description: Manufacturer; ComponentLink1URL: http://www.we-online.de; ComponentLink2Description: Datasheet; ComponentLink2URL: https://katalog.we-online.com/pbs/datasheet/7447786002.pdf; Published Date: April 2019; Publisher: Wurth Elektronik; Rated Current: 3.2A; Size: 6050; Inductance: 2.2uH; Operating Temperature: -40 to +125degC; Mounting Technology: SMT; Packaging: Tape and Reel
footprint WE-PD_6050_Robust
pins: 1, 2

## 7447786004
designator L?, comment 4.7uH, 2.6A
WE-PD SMT Power Inductor, size 6050, 4.7uH, 2.6A; Part Number: 7447786004; DC Resistance max.: 65mOhm; Self Resonant Frequency: 60MHz; Saturation Current: 2.8A; ComponentLink1Description: Manufacturer; ComponentLink1URL: http://www.we-online.de; ComponentLink2Description: Datasheet; ComponentLink2URL: https://katalog.we-online.com/pbs/datasheet/7447786004.pdf; Published Date: April 2019; Publisher: Wurth Elektronik; Rated Current: 2.6A; Size: 6050; Inductance: 4.7uH; Operating Temperature: -40 to +125degC; Mounting Technology: SMT; Packaging: Tape and Reel
footprint WE-PD_6050_Robust
pins: 1, 2

## 7447786006
designator L?, comment 6.8uH, 2.4A
WE-PD SMT Power Inductor, size 6050, 6.8uH, 2.4A; Part Number: 7447786006; DC Resistance max.: 75mOhm; Self Resonant Frequency: 43MHz; Saturation Current: 2.3A; ComponentLink1Description: Manufacturer; ComponentLink1URL: http://www.we-online.de; ComponentLink2Description: Datasheet; ComponentLink2URL: https://katalog.we-online.com/pbs/datasheet/7447786006.pdf; Published Date: April 2019; Publisher: Wurth Elektronik; Rated Current: 2.4A; Size: 6050; Inductance: 6.8uH; Operating Temperature: -40 to +125degC; Mounting Technology: SMT; Packaging: Tape and Reel
footprint WE-PD_6050_Robust
pins: 1, 2

## 7447786008
designator L?, comment 8.2uH, 2.3A
WE-PD SMT Power Inductor, size 6050, 8.2uH, 2.3A; Part Number: 7447786008; DC Resistance max.: 80mOhm; Self Resonant Frequency: 40MHz; Saturation Current: 2.1A; ComponentLink1Description: Manufacturer; ComponentLink1URL: http://www.we-online.de; ComponentLink2Description: Datasheet; ComponentLink2URL: https://katalog.we-online.com/pbs/datasheet/7447786008.pdf; Published Date: April 2019; Publisher: Wurth Elektronik; Rated Current: 2.3A; Size: 6050; Inductance: 8.2uH; Operating Temperature: -40 to +125degC; Mounting Technology: SMT; Packaging: Tape and Reel
footprint WE-PD_6050_Robust
pins: 1, 2

## 7447786122
designator L?, comment 22uH, 2A
WE-PD SMT Power Inductor, size 6050, 22uH, 2A; Part Number: 7447786122; DC Resistance max.: 115mOhm; Self Resonant Frequency: 15MHz; Saturation Current: 1.2A; ComponentLink1Description: Manufacturer; ComponentLink1URL: http://www.we-online.de; ComponentLink2Description: Datasheet; ComponentLink2URL: https://katalog.we-online.com/pbs/datasheet/7447786122.pdf; Published Date: April 2019; Publisher: Wurth Elektronik; Rated Current: 2A; Size: 6050; Inductance: 22uH; Operating Temperature: -40 to +125degC; Mounting Technology: SMT; Packaging: Tape and Reel
footprint WE-PD_6050_Robust
pins: 1, 2

## 7447786147
designator L?, comment 47uH, 1.2A
WE-PD SMT Power Inductor, size 6050, 47uH, 1.2A; Part Number: 7447786147; DC Resistance max.: 295mOhm; Self Resonant Frequency: 10MHz; Saturation Current: 0.8A; ComponentLink1Description: Manufacturer; ComponentLink1URL: http://www.we-online.de; ComponentLink2Description: Datasheet; ComponentLink2URL: https://katalog.we-online.com/pbs/datasheet/7447786147.pdf; Published Date: April 2019; Publisher: Wurth Elektronik; Rated Current: 1.2A; Size: 6050; Inductance: 47uH; Operating Temperature: -40 to +125degC; Mounting Technology: SMT; Packaging: Tape and Reel
footprint WE-PD_6050_Robust
pins: 1, 2


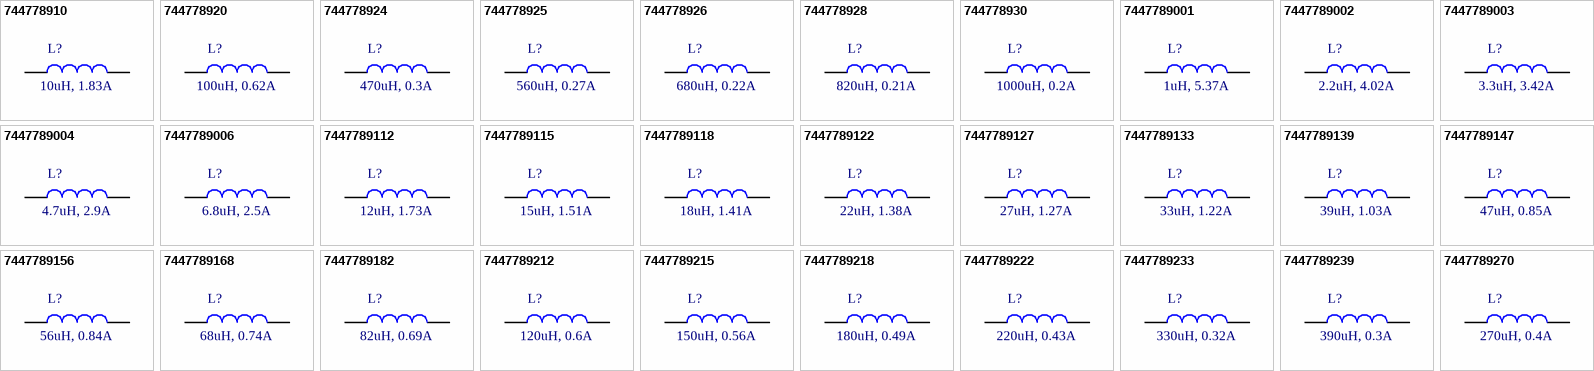
[diagram p14: symbols 744778910 to 7447789270]

## 744778910
designator L?, comment 10uH, 1.83A
WE-PD SMT Power Inductor, size 7332, 10uH, 1.83A; Part Number: 744778910; DC Resistance max.: 72mOhm; Self Resonant Frequency: 32MHz; Saturation Current: 2.2A; ComponentLink1Description: Manufacturer; ComponentLink1URL: http://www.we-online.de; ComponentLink2Description: Datasheet; ComponentLink2URL: https://katalog.we-online.com/pbs/datasheet/744778910.pdf; Published Date: April 2019; Publisher: Wurth Elektronik; Rated Current: 1.83A; Size: 7332; Inductance: 10uH; Operating Temperature: -40 to +125degC; Mounting Technology: SMT; Packaging: Tape and Reel
footprint WE-PD_7332_Robust
pins: 1, 2

## 744778920
designator L?, comment 100uH, 0.62A
WE-PD SMT Power Inductor, size 7332, 100uH, 0.62A; Part Number: 744778920; DC Resistance max.: 790mOhm; Self Resonant Frequency: 9MHz; Saturation Current: 0.76A; ComponentLink1Description: Manufacturer; ComponentLink1URL: http://www.we-online.de; ComponentLink2Description: Datasheet; ComponentLink2URL: https://katalog.we-online.com/pbs/datasheet/744778920.pdf; Published Date: April 2019; Publisher: Wurth Elektronik; Rated Current: 0.62A; Size: 7332; Inductance: 100uH; Operating Temperature: -40 to +125degC; Mounting Technology: SMT; Packaging: Tape and Reel
footprint WE-PD_7332_Robust
pins: 1, 2

## 744778924
designator L?, comment 470uH, 0.3A
WE-PD SMT Power Inductor, size 7332, 470uH, 0.3A; Part Number: 744778924; DC Resistance max.: 4180mOhm; Self Resonant Frequency: 4MHz; Saturation Current: 0.31A; ComponentLink1Description: Manufacturer; ComponentLink1URL: http://www.we-online.de; ComponentLink2Description: Datasheet; ComponentLink2URL: https://katalog.we-online.com/pbs/datasheet/744778924.pdf; Published Date: April 2019; Publisher: Wurth Elektronik; Rated Current: 0.3A; Size: 7332; Inductance: 470uH; Operating Temperature: -40 to +125degC; Mounting Technology: SMT; Packaging: Tape and Reel
footprint WE-PD_7332_Robust
pins: 1, 2

## 744778925
designator L?, comment 560uH, 0.27A
WE-PD SMT Power Inductor, size 7332, 560uH, 0.27A; Part Number: 744778925; DC Resistance max.: 4670mOhm; Self Resonant Frequency: 3.7MHz; Saturation Current: 0.3A; ComponentLink1Description: Manufacturer; ComponentLink1URL: http://www.we-online.de; ComponentLink2Description: Datasheet; ComponentLink2URL: https://katalog.we-online.com/pbs/datasheet/744778925.pdf; Published Date: April 2019; Publisher: Wurth Elektronik; Rated Current: 0.27A; Size: 7332; Inductance: 560uH; Operating Temperature: -40 to +125degC; Mounting Technology: SMT; Packaging: Tape and Reel
footprint WE-PD_7332_Robust
pins: 1, 2

## 744778926
designator L?, comment 680uH, 0.22A
WE-PD SMT Power Inductor, size 7332, 680uH, 0.22A; Part Number: 744778926; DC Resistance max.: 5730mOhm; Self Resonant Frequency: 3.4MHz; ComponentLink1Description: Manufacturer; ComponentLink1URL: http://www.we-online.de; ComponentLink2Description: Datasheet; ComponentLink2URL: https://katalog.we-online.com/pbs/datasheet/744778926.pdf; Published Date: April 2019; Publisher: Wurth Elektronik; Rated Current: 0.22A; Size: 7332; Inductance: 680uH; Operating Temperature: -40 to +125degC; Mounting Technology: SMT; Packaging: Tape and Reel; Saturation Current: 0.22A
footprint WE-PD_7332_Robust
pins: 1, 2

## 744778928
designator L?, comment 820uH, 0.21A
WE-PD SMT Power Inductor, size 7332, 820uH, 0.21A; Part Number: 744778928; DC Resistance max.: 6540mOhm; Self Resonant Frequency: 2.8MHz; Saturation Current: 0.2A; ComponentLink1Description: Manufacturer; ComponentLink1URL: http://www.we-online.de; ComponentLink2Description: Datasheet; ComponentLink2URL: https://katalog.we-online.com/pbs/datasheet/744778928.pdf; Published Date: April 2019; Publisher: Wurth Elektronik; Rated Current: 0.21A; Size: 7332; Inductance: 820uH; Operating Temperature: -40 to +125degC; Mounting Technology: SMT; Packaging: Tape and Reel
footprint WE-PD_7332_Robust
pins: 1, 2

## 744778930
designator L?, comment 1000uH, 0.2A
WE-PD SMT Power Inductor, size 7332, 1000uH, 0.2A; Part Number: 744778930; DC Resistance max.: 9440mOhm; Self Resonant Frequency: 2.6MHz; Saturation Current: 0.18A; ComponentLink1Description: Manufacturer; ComponentLink1URL: http://www.we-online.de; ComponentLink2Description: Datasheet; ComponentLink2URL: https://katalog.we-online.com/pbs/datasheet/744778930.pdf; Published Date: April 2019; Publisher: Wurth Elektronik; Rated Current: 0.2A; Size: 7332; Inductance: 1000uH; Operating Temperature: -40 to +125degC; Mounting Technology: SMT; Packaging: Tape and Reel
footprint WE-PD_7332_Robust
pins: 1, 2

## 7447789001
designator L?, comment 1uH, 5.37A
WE-PD SMT Power Inductor, size 7332, 1uH, 5.37A; Part Number: 7447789001; DC Resistance max.: 12mOhm; Self Resonant Frequency: 115MHz; Saturation Current: 6.4A; ComponentLink1Description: Manufacturer; ComponentLink1URL: http://www.we-online.de; ComponentLink2Description: Datasheet; ComponentLink2URL: https://katalog.we-online.com/pbs/datasheet/7447789001.pdf; Published Date: April 2019; Publisher: Wurth Elektronik; Rated Current: 5.37A; Size: 7332; Inductance: 1uH; Operating Temperature: -40 to +125degC; Mounting Technology: SMT; Packaging: Tape and Reel
footprint WE-PD_7332_Robust
pins: 1, 2

## 7447789002
designator L?, comment 2.2uH, 4.02A
WE-PD SMT Power Inductor, size 7332, 2.2uH, 4.02A; Part Number: 7447789002; DC Resistance max.: 23mOhm; Self Resonant Frequency: 67MHz; Saturation Current: 4.8A; ComponentLink1Description: Manufacturer; ComponentLink1URL: http://www.we-online.de; ComponentLink2Description: Datasheet; ComponentLink2URL: https://katalog.we-online.com/pbs/datasheet/7447789002.pdf; Published Date: April 2019; Publisher: Wurth Elektronik; Rated Current: 4.02A; Size: 7332; Inductance: 2.2uH; Operating Temperature: -40 to +125degC; Mounting Technology: SMT; Packaging: Tape and Reel
footprint WE-PD_7332_Robust
pins: 1, 2

## 7447789003
designator L?, comment 3.3uH, 3.42A
WE-PD SMT Power Inductor, size 7332, 3.3uH, 3.42A; Part Number: 7447789003; DC Resistance max.: 30mOhm; Self Resonant Frequency: 61MHz; Saturation Current: 4.2A; ComponentLink1Description: Manufacturer; ComponentLink1URL: http://www.we-online.de; ComponentLink2Description: Datasheet; ComponentLink2URL: https://katalog.we-online.com/pbs/datasheet/7447789003.pdf; Published Date: April 2019; Publisher: Wurth Elektronik; Rated Current: 3.42A; Size: 7332; Inductance: 3.3uH; Operating Temperature: -40 to +125degC; Mounting Technology: SMT; Packaging: Tape and Reel
footprint WE-PD_7332_Robust
pins: 1, 2

## 7447789004
designator L?, comment 4.7uH, 2.9A
WE-PD SMT Power Inductor, size 7332, 4.7uH, 2.9A; Part Number: 7447789004; DC Resistance max.: 35mOhm; Self Resonant Frequency: 45MHz; Saturation Current: 3.9A; ComponentLink1Description: Manufacturer; ComponentLink1URL: http://www.we-online.de; ComponentLink2Description: Datasheet; ComponentLink2URL: https://katalog.we-online.com/pbs/datasheet/7447789004.pdf; Published Date: April 2019; Publisher: Wurth Elektronik; Rated Current: 2.9A; Size: 7332; Inductance: 4.7uH; Operating Temperature: -40 to +125degC; Mounting Technology: SMT; Packaging: Tape and Reel
footprint WE-PD_7332_Robust
pins: 1, 2

## 7447789006
designator L?, comment 6.8uH, 2.5A
WE-PD SMT Power Inductor, size 7332, 6.8uH, 2.5A; Part Number: 7447789006; DC Resistance max.: 44mOhm; Self Resonant Frequency: 38MHz; Saturation Current: 2.75A; ComponentLink1Description: Manufacturer; ComponentLink1URL: http://www.we-online.de; ComponentLink2Description: Datasheet; ComponentLink2URL: https://katalog.we-online.com/pbs/datasheet/7447789006.pdf; Published Date: April 2019; Publisher: Wurth Elektronik; Rated Current: 2.5A; Size: 7332; Inductance: 6.8uH; Operating Temperature: -40 to +125degC; Mounting Technology: SMT; Packaging: Tape and Reel
footprint WE-PD_7332_Robust
pins: 1, 2

## 7447789112
designator L?, comment 12uH, 1.73A
WE-PD SMT Power Inductor, size 7332, 12uH, 1.73A; Part Number: 7447789112; DC Resistance max.: 98mOhm; Self Resonant Frequency: 27MHz; Saturation Current: 1.9A; ComponentLink1Description: Manufacturer; ComponentLink1URL: http://www.we-online.de; ComponentLink2Description: Datasheet; ComponentLink2URL: https://katalog.we-online.com/pbs/datasheet/7447789112.pdf; Published Date: April 2019; Publisher: Wurth Elektronik; Rated Current: 1.73A; Size: 7332; Inductance: 12uH; Operating Temperature: -40 to +125degC; Mounting Technology: SMT; Packaging: Tape and Reel
footprint WE-PD_7332_Robust
pins: 1, 2

## 7447789115
designator L?, comment 15uH, 1.51A
WE-PD SMT Power Inductor, size 7332, 15uH, 1.51A; Part Number: 7447789115; DC Resistance max.: 130mOhm; Self Resonant Frequency: 26MHz; Saturation Current: 1.75A; ComponentLink1Description: Manufacturer; ComponentLink1URL: http://www.we-online.de; ComponentLink2Description: Datasheet; ComponentLink2URL: https://katalog.we-online.com/pbs/datasheet/7447789115.pdf; Published Date: April 2019; Publisher: Wurth Elektronik; Rated Current: 1.51A; Size: 7332; Inductance: 15uH; Operating Temperature: -40 to +125degC; Mounting Technology: SMT; Packaging: Tape and Reel
footprint WE-PD_7332_Robust
pins: 1, 2

## 7447789118
designator L?, comment 18uH, 1.41A
WE-PD SMT Power Inductor, size 7332, 18uH, 1.41A; Part Number: 7447789118; DC Resistance max.: 140mOhm; Self Resonant Frequency: 24MHz; Saturation Current: 1.7A; ComponentLink1Description: Manufacturer; ComponentLink1URL: http://www.we-online.de; ComponentLink2Description: Datasheet; ComponentLink2URL: https://katalog.we-online.com/pbs/datasheet/7447789118.pdf; Published Date: April 2019; Publisher: Wurth Elektronik; Rated Current: 1.41A; Size: 7332; Inductance: 18uH; Operating Temperature: -40 to +125degC; Mounting Technology: SMT; Packaging: Tape and Reel
footprint WE-PD_7332_Robust
pins: 1, 2